# EAGLE library part KK156-10 (library con-molex-kk)
HEADER
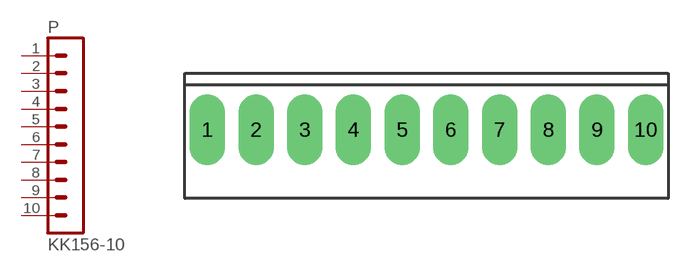
[diagram p168: symbol with the pads of KK156-10; footprint KK156-10]

Designator prefix P

## KK156-10  [KK156-10]
1  1  pas
2  2  pas
3  3  pas
4  4  pas
5  5  pas
6  6  pas
7  7  pas
8  8  pas
9  9  pas
10  10  pas

## Footprint KK156-10 (pad centres in mm)
HEADER - 0.156" SPOX 5273 Series
drill 1.93 long: 1 -17.831,0; 2 -13.868,0; 3 -9.906,0; 4 -5.944,0; 5 -1.981,0; 6 1.981,0; 7 5.944,0; 8 9.906,0; 9 13.868,0; 10 17.831,0